# Altium footprint library TrackCommanderCar_PCB.PcbLib: 41 footprints (part 3 of 3)
Each footprint in its own frame and in the unit in brackets; x right, y up, seen from the top. Pads: shape width x height; smd on the part's side, far side on the other; paste and mask are expansions set on the pad; w line width, h text height; cw(c..) or ccw(c..) is an arc to the next point about the centre after c.
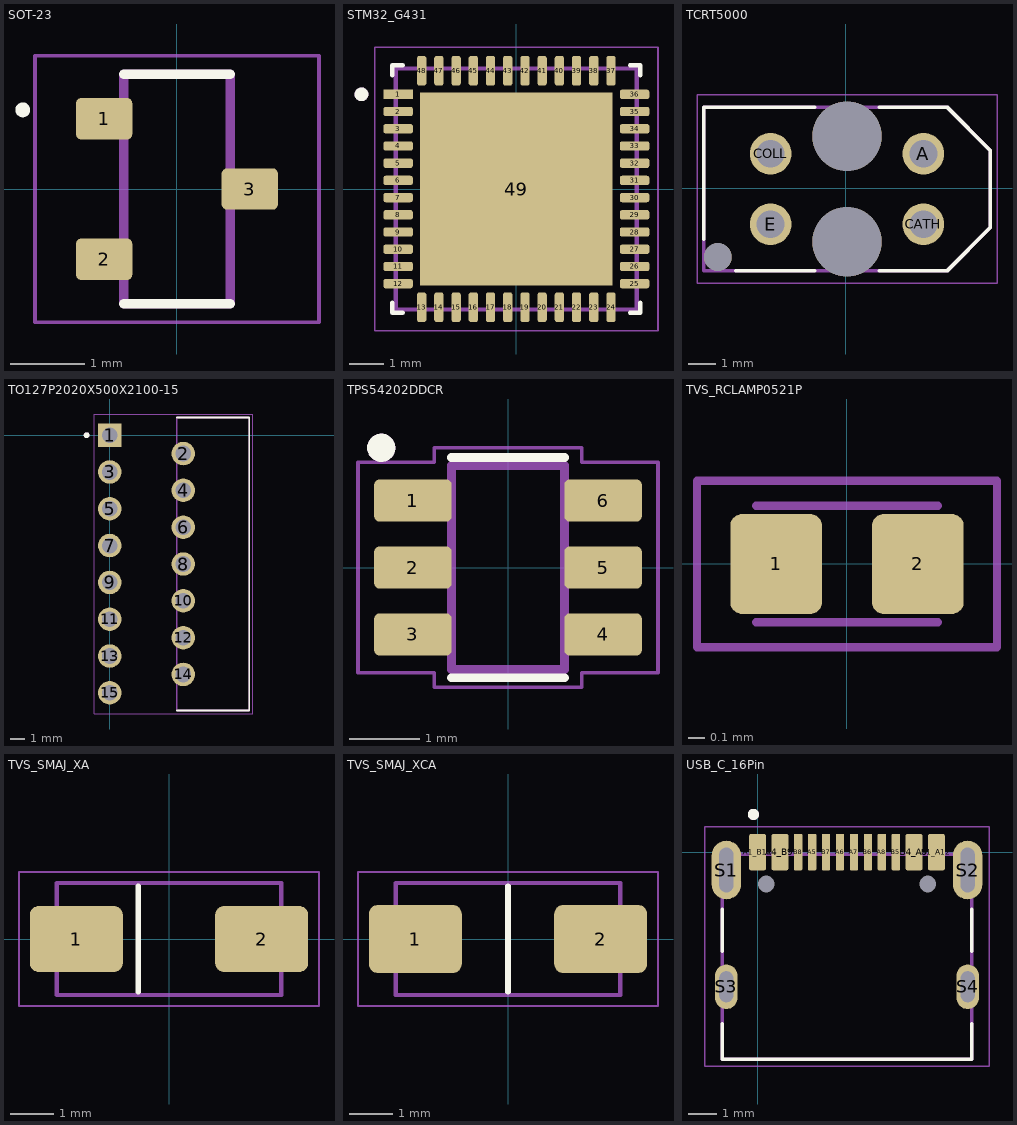
[diagram p2: the footprints below, top view; thin cyan lines are the x and y axes]

## SOT-23 [mm]
pads (3):
  rrect25% 0.76x0.56 smd mask+0.07: 1(-0.984,0.95) 2(-0.984,-0.95) 3(0.984,0)
Top Overlay:
  circle w0.1: c-2.086,1.07 r0.05
  lines w0.127: -0.72,-1.55 0.72,-1.55 ; -0.72,1.55 0.72,1.55
Mechanical 13:
  lines w0.127: -0.72,-1.55 0.72,-1.55 0.72,1.55 -0.72,1.55 -0.72,-1.55
Mechanical 15:
  lines w0.05: -1.92,-1.8 1.92,-1.8 1.92,1.8 -1.92,1.8 -1.92,-1.8
3D body "step_temp.STEP": height 1.14, standoff 0, extent -1.2,-1.45 1.2,1.45

## STM32_G431 [mm]
pads (49):
  rect 0.86x0.27 smd mask+0.05: 1(-3.435,2.75)
  rrect50% 0.86x0.27 smd mask+0.05: 2(-3.435,2.25) 3(-3.435,1.75) 4(-3.435,1.25) 5(-3.435,0.75) 6(-3.435,0.25) 7(-3.435,-0.25) 8(-3.435,-0.75) 9(-3.435,-1.25) 10(-3.435,-1.75) 11(-3.435,-2.25) 12(-3.435,-2.75) 25(3.435,-2.75) 26(3.435,-2.25) 27(3.435,-1.75) 28(3.435,-1.25) 29(3.435,-0.75) 30(3.435,-0.25) 31(3.435,0.25) 32(3.435,0.75) 33(3.435,1.25) 34(3.435,1.75) 35(3.435,2.25) 36(3.435,2.75)
  rrect50% 0.27x0.86 smd mask+0.05: 13(-2.75,-3.435) 14(-2.25,-3.435) 15(-1.75,-3.435) 16(-1.25,-3.435) 17(-0.75,-3.435) 18(-0.25,-3.435) 19(0.25,-3.435) 20(0.75,-3.435) 21(1.25,-3.435) 22(1.75,-3.435) 23(2.25,-3.435) 24(2.75,-3.435) 37(2.75,3.435) 38(2.25,3.435) 39(1.75,3.435) 40(1.25,3.435) 41(0.75,3.435) 42(0.25,3.435) 43(-0.25,3.435) 44(-0.75,3.435) 45(-1.25,3.435) 46(-1.75,3.435) 47(-2.25,3.435) 48(-2.75,3.435)
  rect 5.6x5.6 smd paste-4 mask+0.05: 49(0,0)
Top Overlay:
  circle w0.2: c-4.5,2.75 r0.1
  lines w0.127: -3.6,-3.3 -3.6,-3.6 -3.3,-3.6 ; -3.6,3.3 -3.6,3.6 -3.3,3.6 ; 3.3,-3.6 3.6,-3.6 3.6,-3.3 ; 3.3,3.6 3.6,3.6 3.6,3.3
Top Paste:
  region: -0.515,0.515 -2.285,0.515 -2.285,2.285 -0.515,2.285
  region: 2.285,0.515 0.515,0.515 0.515,2.285 2.285,2.285
  region: -0.515,-2.285 -2.285,-2.285 -2.285,-0.515 -0.515,-0.515
  region: 2.285,-2.285 0.515,-2.285 0.515,-0.515 2.285,-0.515
Mechanical 13:
  circle w0.2: c-4.5,2.75 r0.1
  lines w0.127: -3.5,-3.5 3.5,-3.5 3.5,3.5 -3.5,3.5 -3.5,-3.5
Mechanical 15:
  lines w0.05: -4.115,-4.115 4.115,-4.115 4.115,4.115 -4.115,4.115 -4.115,-4.115
3D body "step_temp.STEP": height 0.65, standoff 0, extent -3.5,-3.5 3.5,3.5

## TCRT5000 [mm]
pads (7):
  round 1.5 hole 1 mask+0.07: A(2.8,1.245) CATH(2.8,-1.295) COLL(-2.7,1.245) E(-2.7,-1.295)
  round 1 hole 1 unplated mask+0.07: ""(-4.6,-2.475)
  round 2.5 hole 2.5 unplated mask+0.07: ""(0.05,-1.925) ""(0.05,1.875)
Top Overlay:
  lines w0.127: -5.1,-1.825 -5.1,2.925 -1.12,2.925 ; -3.95,-2.975 -1.12,-2.975 ; 1.22,-2.975 3.65,-2.975 5.2,-1.425 5.2,1.375 3.65,2.925 1.22,2.925
Mechanical 13:
  lines w0.127: -5.1,-2.975 3.65,-2.975 5.2,-1.425 5.2,1.375 3.65,2.925 -5.1,2.925 -5.1,-2.975
Mechanical 15:
  lines w0.05: -5.35,-3.425 5.45,-3.425 5.45,3.375 -5.35,3.375 -5.35,-3.425
3D body "TCRT5000--3DModel-STEP-56544.STEP": height 7.2, standoff -3.8, extent -5.075,-3.4 5.125,3.4

## TO127P2020X500X2100-15 [mm]
pads (15):
  rect 1.62x1.62 hole 1.08: 1(0,0)
  round 1.62 hole 1.08: 2(5.08,-1.27) 3(0,-2.54) 4(5.08,-3.81) 5(0,-5.08) 6(5.08,-6.35) 7(0,-7.62) 8(5.08,-8.89) 9(0,-10.16) 10(5.08,-11.43) 11(0,-12.7) 12(5.08,-13.97) 13(0,-15.24) 14(5.08,-16.51) 15(0,-17.78)
Top Overlay:
  circle w0.2: c-1.59,0 r0.1
  lines w0.127: 4.63,-18.99 9.63,-18.99 9.63,1.21 4.63,1.21
Mechanical 13:
  circle w0.2: c-1.59,0 r0.1
  lines w0.127: 4.63,-18.99 4.63,1.21 9.63,1.21 9.63,-18.99 4.63,-18.99
Mechanical 15:
  lines w0.05: -1.06,-19.24 -1.06,1.46 9.88,1.46 9.88,-19.24 -1.06,-19.24
3D body "step_temp.STEP": height 20.5, standoff -4.47, extent -0.26,-18.99 9.63,1.21

## TPS54202DDCR [mm]
pads (6):
  rrect25% 1.1x0.6 smd mask+0.07: 1(-1.35,0.95) 2(-1.35,0) 3(-1.35,-0.95) 4(1.35,-0.95) 5(1.35,0) 6(1.35,0.95)
Top Overlay:
  circle w0.2: c-1.8,1.7 r0.1
  lines w0.127: -0.8,-1.565 0.8,-1.565 ; -0.8,1.565 0.8,1.565
Mechanical 13:
  circle w0.2: c-1.8,1.7 r0.1
  lines w0.127: -0.8,-1.45 0.8,-1.45 0.8,1.45 -0.8,1.45 -0.8,-1.45
Mechanical 15:
  lines w0.05: -2.13,-1.495 -1.05,-1.495 -1.05,-1.7 1.05,-1.7 1.05,-1.495 2.13,-1.495 2.13,1.495 1.05,1.495 1.05,1.7 -1.05,1.7 -1.05,1.495 -2.13,1.495 -2.13,-1.495
3D body "User Library-SOT-23-6-THIN.step": height 1.1, standoff 0, extent -1.5,-1.5 1.5,1.5

## TVS_RCLAMP0521P [mm]
pads (2):
  rrect25% 0.55x0.6 smd mask+0.05: 1(-0.425,0) 2(0.425,0)
Mechanical 13:
  lines w0.05: -0.546,-0.35 0.546,-0.35 ; -0.546,0.35 0.546,0.35
Mechanical 15:
  lines w0.05: -0.9,-0.5 0.9,-0.5 0.9,0.5 -0.9,0.5 -0.9,-0.5
3D body "CR_RCLAMP05_SEM.step": height 0.56, standoff 0, extent -0.546,-0.356 0.546,0.356

## TVS_SMAJ_XA [mm]
pads (2):
  rrect25% 2.12x1.5 smd mask+0.07: 1(-2.115,0) 2(2.115,0)
Top Overlay:
  lines w0.127: -0.7,-1.2 -0.7,1.2
Mechanical 13:
  lines w0.1: 2.565,-1.28 2.565,1.28 ; 2.57,-1.28 -2.565,-1.28 -2.565,1.28 2.57,1.28
Mechanical 15:
  lines w0.05: -3.425,-1.53 3.425,-1.53 3.425,1.53 -3.425,1.53 -3.425,-1.53
3D body "step_temp.STEP": height 2.5, standoff 0, extent -2.57,-1.28 2.57,1.28

## TVS_SMAJ_XCA [mm]
pads (2):
  rrect25% 2.12x1.55 smd mask+0.07: 1(-2.115,0) 2(2.115,0)
Top Overlay:
  lines w0.127: 0,-1.2 0,1.2
Mechanical 13:
  lines w0.1: -2.57,-1.28 2.57,-1.28 ; -2.565,-1.28 -2.565,1.28 2.57,1.28 ; 2.565,-1.28 2.565,1.28
Mechanical 15:
  lines w0.05: -3.425,-1.53 -3.425,1.53 3.425,1.53 3.425,-1.53 -3.425,-1.53
3D body "step_temp.STEP": height 2.5, standoff 0, extent -2.57,-1.28 2.57,1.28

## USB_C_16Pin [mm]
pads (18):
  rrect20% 0.6x1.3 smd mask+0.05: A1_B12(0,0) A4_B9(0.8,0) B1_A12(6.4,0) B4_A9(5.6,0)
  rrect20% 0.3x1.3 smd mask+0.05: A5(1.95,0) A6(2.95,0) A7(3.45,0) A8(4.45,0) B5(4.95,0) B6(3.95,0) B7(2.45,0) B8(1.45,0)
  oval 1.05x2.1 hole 0.5 slot 1.6 at 90 deg mask+0.05: S1(-1.12,-0.64) S2(7.52,-0.64)
  oval 0.8x1.6 hole 0.5 slot 1.1 at 90 deg mask+0.05: S3(-1.12,-4.82) S4(7.52,-4.82)
  round 0 hole 0.6 mask+0.35: ""(0.31,-1.14) ""(6.09,-1.14)
Top Overlay:
  circle w0.2: c-0.15,1.35 r0.1
  lines w0.127: -1.27,-6.15 -1.27,-7.42 7.67,-7.42 7.67,-6.15 ; -1.27,-3.55 -1.27,-2.05 ; 7.67,-3.55 7.67,-2.05
Mechanical 13:
  circle w0.2: c-0.15,1.35 r0.1
  lines w0.127: -1.27,-7.42 7.67,-7.42 7.67,-0.07 -1.27,-0.07 -1.27,-7.42
Mechanical 15:
  lines w0.05: -1.895,-7.67 8.295,-7.67 8.295,0.9 -1.895,0.9 -1.895,-7.67
3D body "step_temp.STEP": height 3.26, standoff -0.8, extent -1.27,-7.461 7.67,0.349